# Altium schematic symbol library Operational Amplifiers.SchLib: 236 symbols (part 2 of 2)
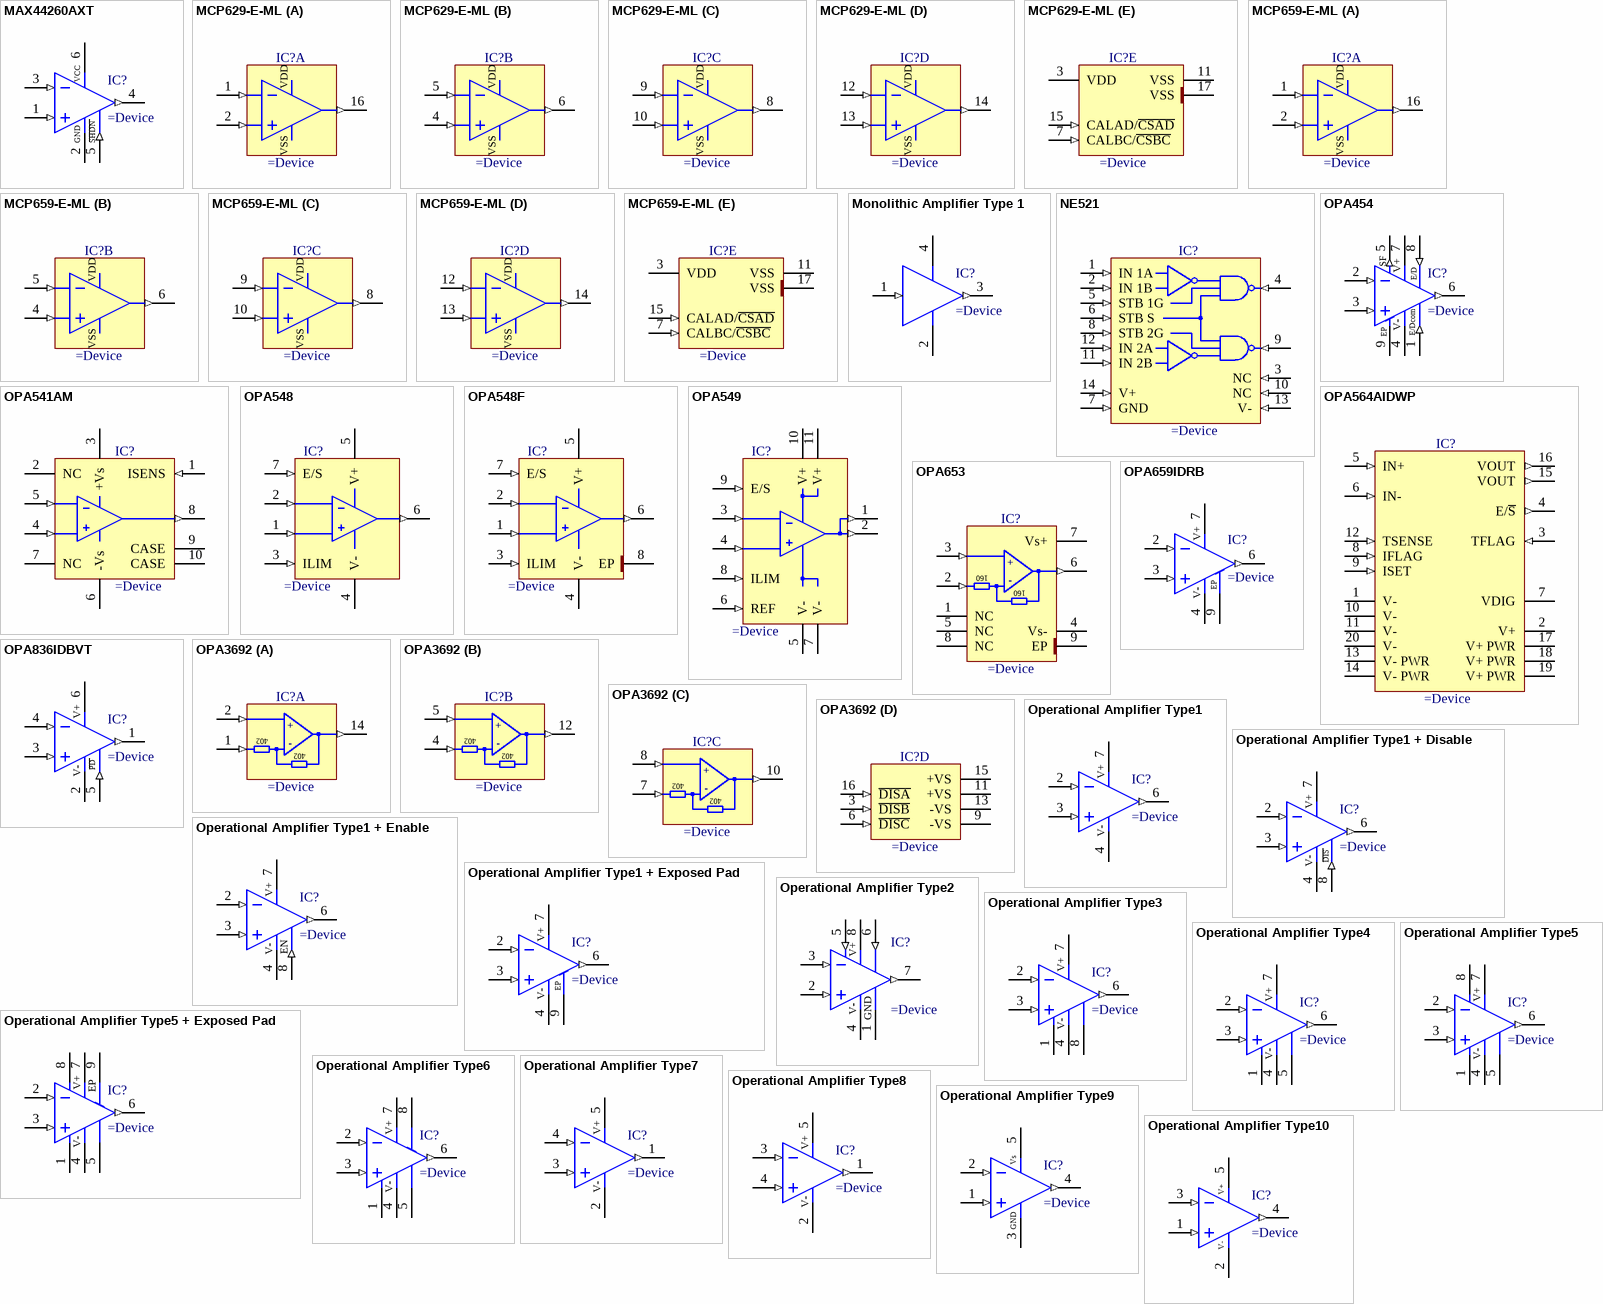
[diagram p9: symbols MAX44260AXT to Operational Amplifier Type10]

## Operational Amplifier Type4
designator IC?
Operational Amplifier with Offset 1-5
pins: 1 OFFSET, 2 IN- (in), 3 IN+ (in), 4 V- (power), 5 OFFSET, 6 OUT (out), 7 V+ (power)
1 alternate drawing of the same symbol

## Operational Amplifier Type5
designator IC?
Operational Amplifier
pins: 1 NC, 2 IN- (in), 3 IN+ (in), 4 V- (power), 5 NC, 6 OUT (out), 7 V+ (power), 8 NC
1 alternate drawing of the same symbol

## Operational Amplifier Type5 + Exposed Pad
designator IC?
Operational Amplifier with Exposed Thermal Pad
pins: 1 NC, 2 IN- (in), 3 IN+ (in), 4 V- (power), 5 NC, 6 OUT (out), 7 V+ (power), 8 NC, 9 EP
1 alternate drawing of the same symbol

## Operational Amplifier Type6
designator IC?
Operational Amplifier
pins: 1 OFFSET, 2 IN- (in), 3 IN+ (in), 4 V- (power), 5 OFFSET, 6 OUT (out), 7 V+ (power), 8 CASE
1 alternate drawing of the same symbol

## Operational Amplifier Type7
designator IC?
Operational Amplifier
pins: 1 OUT (out), 2 V- (power), 3 IN+ (in), 4 IN- (in), 5 V+ (power)
1 alternate drawing of the same symbol

## Operational Amplifier Type8
designator IC?
Operational Amplifier
pins: 1 OUT (out), 2 V- (power), 3 IN- (in), 4 IN+ (in), 5 V+ (power)
1 alternate drawing of the same symbol

## Operational Amplifier Type9
designator IC?
Operational Amplifier
pins: 1 IN+ (in), 2 IN- (in), 3 GND (power), 4 OUT (out), 5 Vs (power)
1 alternate drawing of the same symbol

## Operational Amplifier Type10
designator IC?
Operational Amplifier
pins: 1 IN+ (in), 2 V- (power), 3 IN- (in), 4 OUT (out), 5 V+ (power)
1 alternate drawing of the same symbol

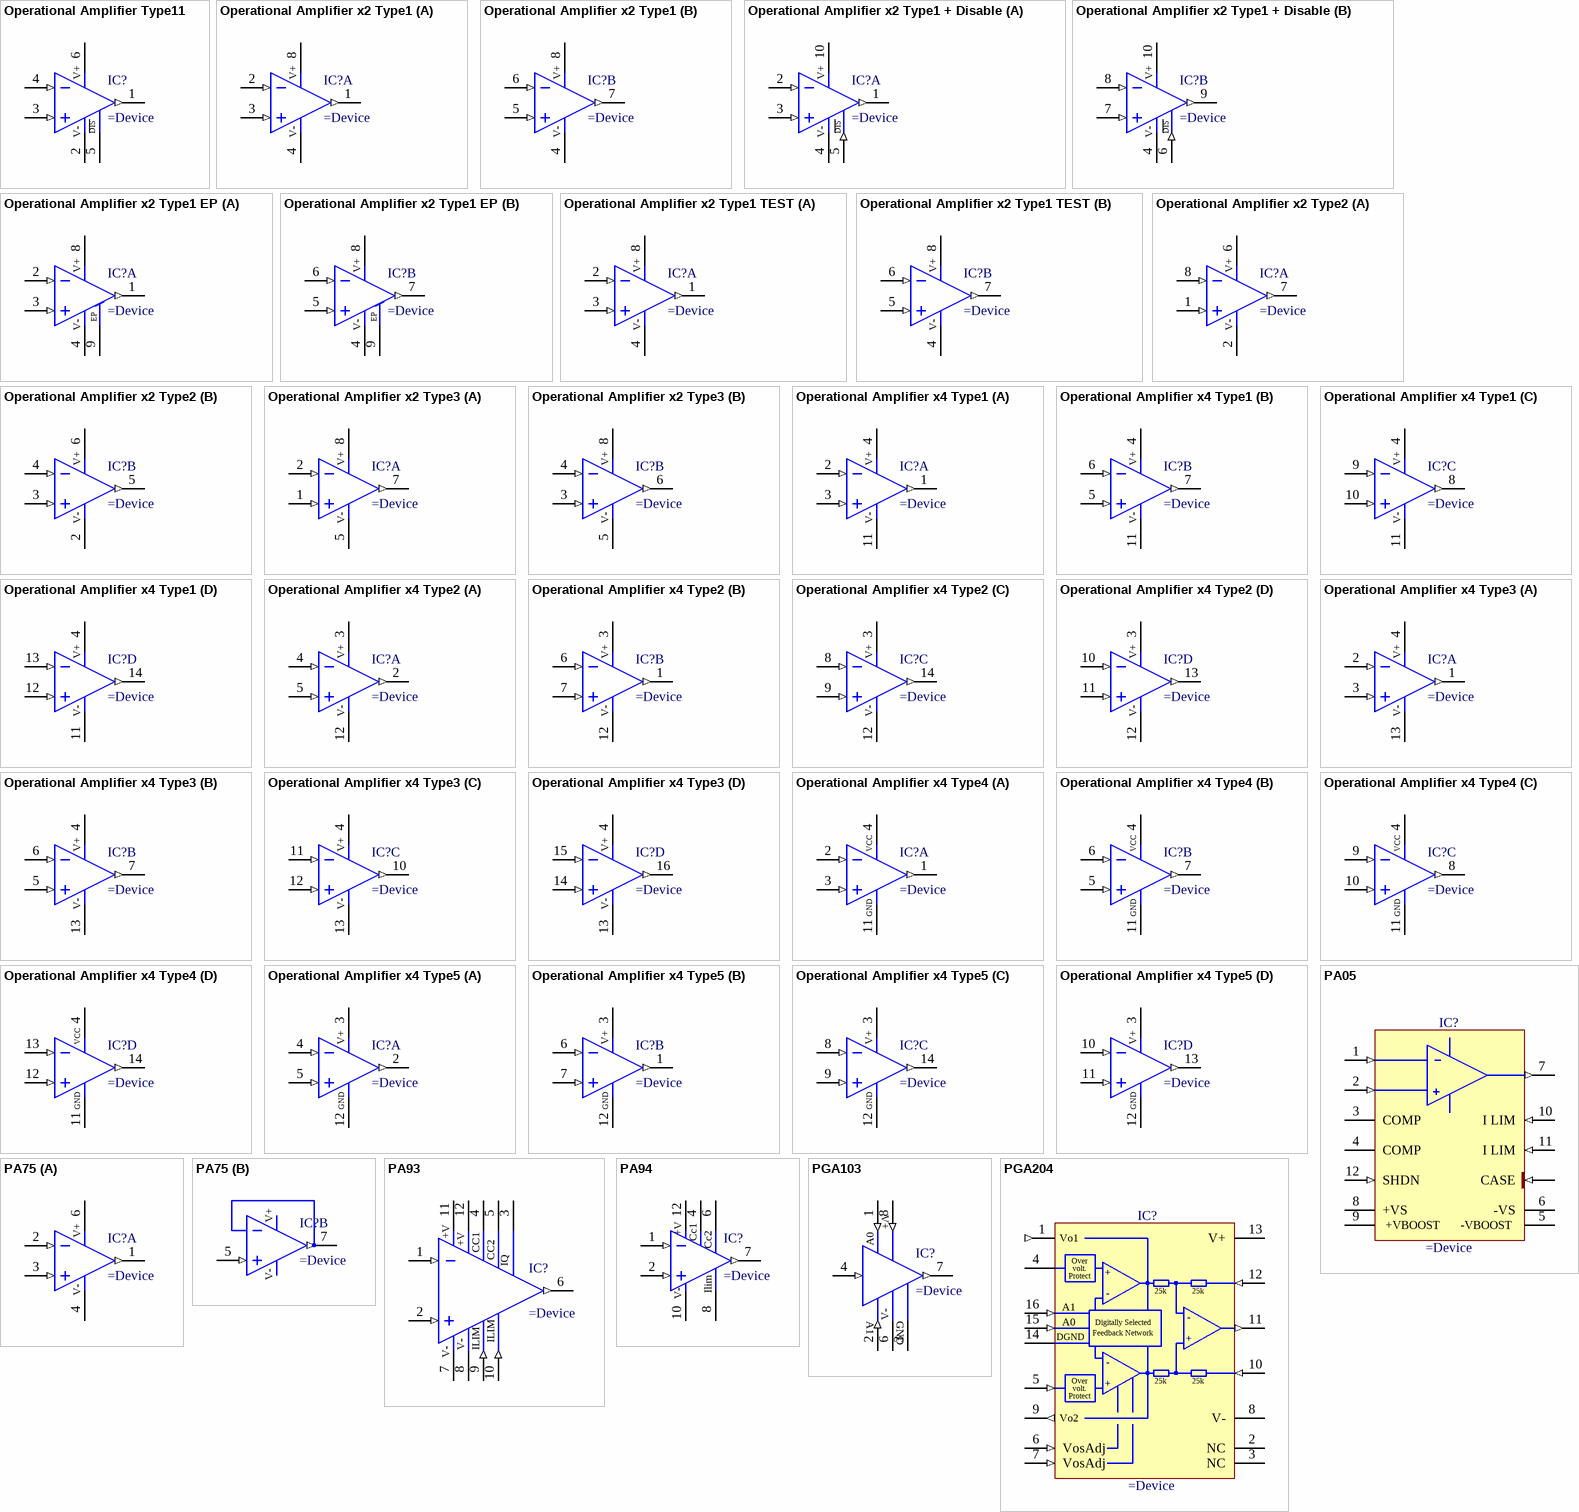
[diagram p7: symbols Operational Amplifier Type11 to PGA204]

## Operational Amplifier Type11
designator IC?
Operational Amplifier With Disable
pins: 1 OUT (out), 2 V- (power), 3 IN+ (in), 4 IN- (in), 5 ~{DIS} (power), 6 V+ (power)
1 alternate drawing of the same symbol
text: DIS

## Operational Amplifier x2 Type1
designator IC?
Dual Operational Amplifier
pins on every part: 4 V- (power), 8 V+ (power)
part A pins: 1 OUT (out), 2 IN- (in), 3 IN+ (in)
part B pins: 5 IN+ (in), 6 IN- (in), 7 OUT (out)
1 alternate drawing of the same symbol

## Operational Amplifier x2 Type1 + Disable
designator IC?
Dual Operational Amplifier with Disable
pins on every part: 4 V- (power), 10 V+ (power)
part A pins: 1 OUT (out), 2 IN- (in), 3 IN+ (in), 5 ~{DIS} (in)
part B pins: 6 ~{DIS} (in), 7 IN+ (in), 8 IN- (in), 9 OUT (out)
1 alternate drawing of the same symbol
part A text: DIS
part B text: DIS

## Operational Amplifier x2 Type1 EP
designator IC?
Dual Operational Amplifier With Exposed Pad
pins on every part: 4 V- (power), 8 V+ (power), 9 Exposed Pad (power)
part A pins: 1 OUT (out), 2 IN- (in), 3 IN+ (in)
part B pins: 5 IN+ (in), 6 IN- (in), 7 OUT (out)
1 alternate drawing of the same symbol
part A text: EP
part B text: EP

## Operational Amplifier x2 Type1 TEST
designator IC?
Dual Operational Amplifier
pins on every part: 4 V- (power), 8 V+ (power)
part A pins: 1 OUT (out), 2 IN- (in), 3 IN+ (in)
part B pins: 5 IN+ (in), 6 IN- (in), 7 OUT (out)
1 alternate drawing of the same symbol

## Operational Amplifier x2 Type2
designator IC?
Dual Operational Amplifier
pins on every part: 2 V- (power), 6 V+ (power)
part A pins: 1 IN+ (in), 7 OUT (out), 8 IN- (in)
part B pins: 3 IN+ (in), 4 IN- (in), 5 OUT (out)
1 alternate drawing of the same symbol

## Operational Amplifier x2 Type3
designator IC?
Dual Operational Amplifier
pins on every part: 5 V- (power), 8 V+ (power)
part A pins: 1 IN+ (in), 2 IN- (in), 7 OUT (out)
part B pins: 3 IN+ (in), 4 IN- (in), 6 OUT (out)
1 alternate drawing of the same symbol

## Operational Amplifier x4 Type1
designator IC?
Quad Operational Amplifier
pins on every part: 4 V+ (power), 11 V- (power)
part A pins: 1 OUT (out), 2 IN- (in), 3 IN+ (in)
part B pins: 5 IN+ (in), 6 IN- (in), 7 OUT (out)
part C pins: 8 OUT (out), 9 IN- (in), 10 IN+ (in)
part D pins: 12 IN+ (in), 13 IN- (in), 14 OUT (out)
1 alternate drawing of the same symbol

## Operational Amplifier x4 Type2
designator IC?
Quad Operational Amplifier
pins on every part: 3 V+ (power), 12 V- (power)
part A pins: 2 OUT (out), 4 IN- (in), 5 IN+ (in)
part B pins: 1 OUT (out), 6 IN- (in), 7 IN+ (in)
part C pins: 8 IN- (in), 9 IN+ (in), 14 OUT (out)
part D pins: 10 IN- (in), 11 IN+ (in), 13 OUT (out)
1 alternate drawing of the same symbol

## Operational Amplifier x4 Type3
designator IC?
Quad Operational Amplifier
pins on every part: 4 V+ (power), 13 V- (power)
part A pins: 1 OUT (out), 2 IN- (in), 3 IN+ (in)
part B pins: 5 IN+ (in), 6 IN- (in), 7 OUT (out)
part C pins: 10 OUT (out), 11 IN- (in), 12 IN+ (in)
part D pins: 14 IN+ (in), 15 IN- (in), 16 OUT (out)
1 alternate drawing of the same symbol

## Operational Amplifier x4 Type4
designator IC?
Quad Operational Amplifier
pins on every part: 4 V+ (power), 11 GND (power)
part A pins: 1 OUT (out), 2 IN- (in), 3 IN+ (in)
part B pins: 5 IN+ (in), 6 IN- (in), 7 OUT (out)
part C pins: 8 OUT (out), 9 IN- (in), 10 IN+ (in)
part D pins: 12 IN+ (in), 13 IN- (in), 14 OUT (out)
1 alternate drawing of the same symbol
part A text: VCC
part B text: VCC
part C text: VCC
part D text: VCC

## Operational Amplifier x4 Type5
designator IC?
Quad Operational Amplifier
pins on every part: 3 V+ (power), 12 GND (power)
part A pins: 2 OUT (out), 4 IN- (in), 5 IN+ (in)
part B pins: 1 OUT (out), 6 IN- (in), 7 IN+ (in)
part C pins: 8 IN- (in), 9 IN+ (in), 14 OUT (out)
part D pins: 10 IN- (in), 11 IN+ (in), 13 OUT (out)
1 alternate drawing of the same symbol

## PA05
designator IC?
30A, 100V, 100V/us Power Amplifier
pins: 1 -IN (in), 2 +IN (in), 3 COMP, 4 COMP, 5 -VBOOST (power), 6 -VS (power), 7 OUT (out), 8 +VS (power), 9 +VBOOST (power), 10 I LIM (in), 11 I LIM (in), 12 SHDN (in), CASE (in)

## PA75
designator IC?
Dual Power Operational Amplifier
part A pins: 1 OUTA (out), 2 IN- (in), 3 IN+ (in), 4 V- (power), 6 V+ (power)
part B pins: 5 IN+ (in), 7 OUT (out)
1 alternate drawing of the same symbol

## PA93
designator IC?
High Voltage Power Operational Amplifier
pins: 1 IN- (in), 2 IN+ (in), 3 IQ, 4 Cc1, 5 Cc2, 6 OUT (out), 7 -Vs (power), 8 -Vs (power), 9 ILIM (in), 10 ILIM (in), 11 +Vs (power), 12 +Vs (power)
1 alternate drawing of the same symbol
text: +V; CC1; CC2; V-

## PA94
designator IC?
High Voltage Power Operational Amplifier
pins: 1 IN- (in), 2 IN+ (in), 4 Cc1, 6 Cc2, 7 OUT (out), 8 ILIM, 10 -Vs (power), 12 +Vs (power)
1 alternate drawing of the same symbol
text: +V; Ilim; V-

## PGA103
designator IC?
Buffer Amplifier
pins: 1 A0 (in), 2 A1 (in), 3 GND (power), 4 IN (in), 6 V- (power), 7 OUT (out), 8 V+ (in)

## PGA204
designator IC?
Programmable Gain, Instrumentation Amplifier
pins: 1 Vo1 (out), 2 NC, 3 NC, 4 VIN-, 5 VIN+ (in), 6 VosAdj (in), 7 VosAdj (in), 8 V- (power), 9 Vo2 (out), 10 REF (in), 11 Vo (out), 12 FB (in), 13 V+ (power), 14 DGND (power), 15 A0 (in), 16 A1 (in)
text: Over; volt.; Protect; +; -; 25k; Digitally Selected; Feedback Network

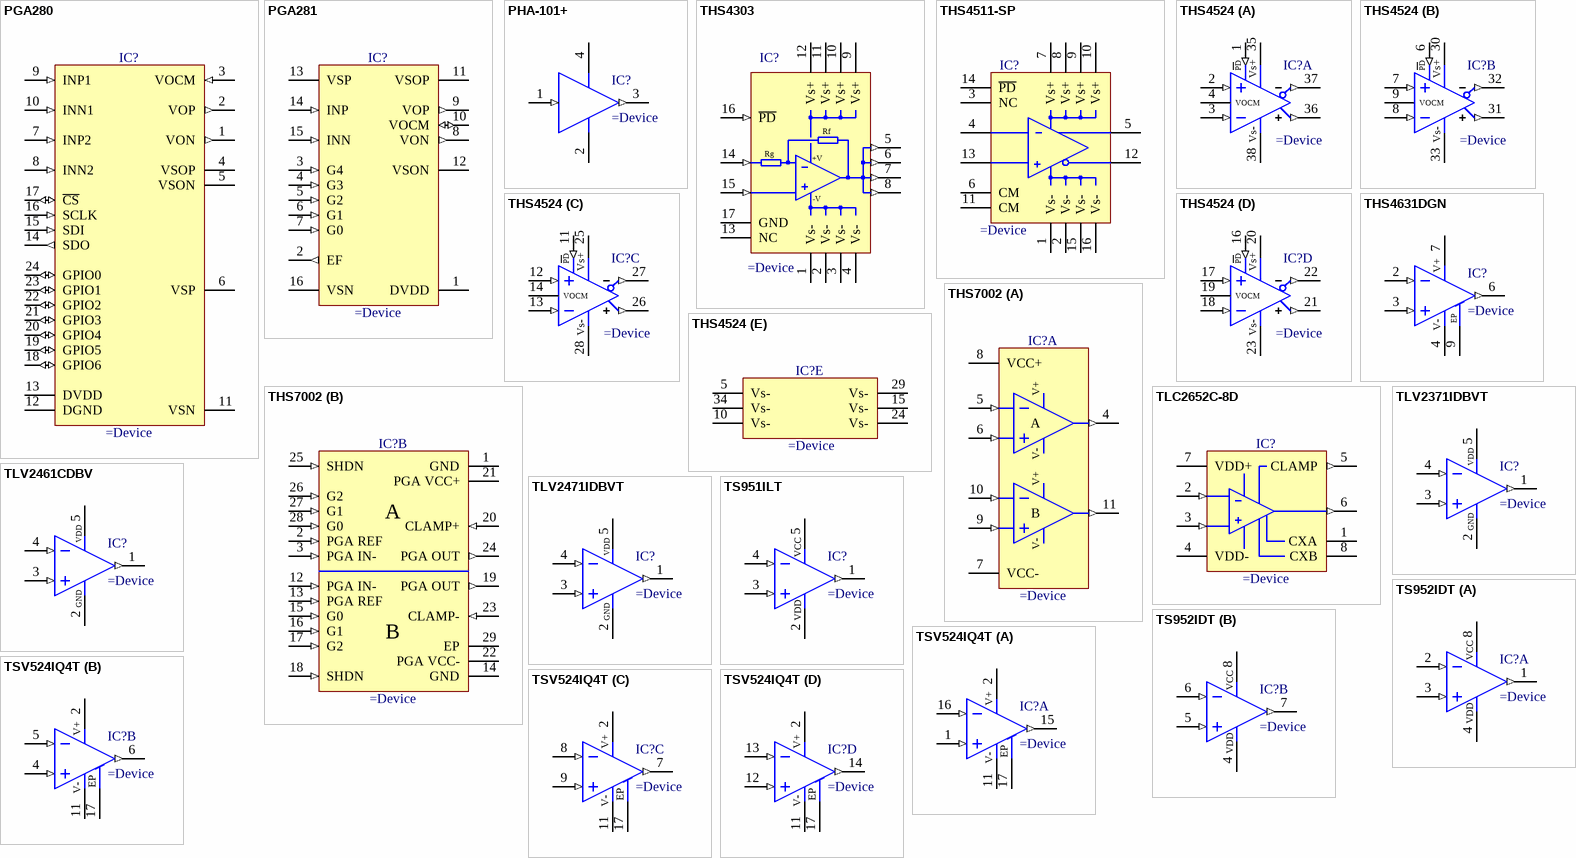
[diagram p8: symbols PGA280 to TSV524IQ4T]

## PGA280
designator IC?
Zerø-Drift, High-Voltage, Programmable Gain Instrumentation Amplifier
pins: 1 VON (out), 2 VOP (out), 3 VOCM (in), 4 VSOP (power), 5 VSON (power), 6 VSP (power), 7 INP2 (in), 8 INN2 (in), 9 INP1 (in), 10 INN1 (in), 11 VSN (power), 12 DGND (power), 13 DVDD (power), 14 SDO (out), 15 SDI (in), 16 SCLK (in), 17 ~{CS} (io), 18 GPIO6 (io), 19 GPIO5 (io), 20 GPIO4 (io), 21 GPIO3 (io), 22 GPIO2 (io), 23 GPIO1 (io), 24 GPIO0 (io)

## PGA281
designator IC?
Precision, Zero-Drift, High-Voltage, Programmable Gain Instrumentation Amplifier
pins: 1 DVDD (power), 2 EF (out), 3 G4 (in), 4 G3 (in), 5 G2 (in), 6 G1 (in), 7 G0 (in), 8 VON (out), 9 VOP (out), 10 VOCM (io), 11 VSOP (power), 12 VSON (power), 13 VSP (power), 14 INP (in), 15 INN (in), 16 VSN (power)

## PHA-101+
designator IC?
0.05-1.5GHz Surface Mount Monolithic Amplifier
pins: 1 RF IN (in), 2 GND (power), 3 RF OUT (out), 4 GND (power)

## THS4303
designator IC?
Wideband Fixed-Gain Amplifier
pins: 1 Vs- (power), 2 Vs- (power), 3 Vs- (power), 4 Vs- (power), 5 VOUT (out), 6 VOUT (out), 7 VOUT (out), 8 VOUT (out), 9 Vs+ (power), 10 Vs+ (power), 11 Vs+ (power), 12 Vs+ (power), 13 NC, 14 VIN- (in), 15 VIN+ (in), 16 ~{PD} (in), 17 GND
text: Rf; Rg; +V; -V

## THS4511-SP
designator IC?
Rad-Tolerant Class V, Wideband, Fully Differential Amplifier
pins: 1 Vs- (power), 2 Vs- (power), 3 NC (power), 4 Vin- (power), 5 Vout+ (power), 6 CM (power), 7 Vs+ (power), 8 Vs+ (power), 9 Vs+ (power), 10 Vs+ (power), 11 CM (power), 12 Vout- (power), 13 Vin+ (power), 14 ~{PD} (power), 15 Vs- (power), 16 Vs- (power)

## THS4524
designator IC?
Very Low Power Quad Channel Rail-to-Rail Output Fully Differential Amplifier
part A pins: 1 ~{PD} (in), 2 IN+ (in), 3 IN- (in), 4 VOCM, 35 Vs+ (power), 36 VOUT+ (out), 37 VOUT- (out), 38 Vs- (power)
part B pins: 6 ~{PD} (in), 7 IN+ (in), 8 IN- (in), 9 VOCM, 30 Vs+ (power), 31 VOUT+ (out), 32 VOUT- (out), 33 Vs- (power)
part C pins: 11 ~{PD} (in), 12 IN+ (in), 13 IN- (in), 14 VOCM, 25 Vs+ (power), 26 VOUT+ (out), 27 VOUT- (out), 28 Vs- (power)
part D pins: 16 ~{PD} (in), 17 IN+ (in), 18 IN- (in), 19 VOCM, 20 Vs+ (power), 21 VOUT+ (out), 22 VOUT- (out), 23 Vs- (power)
part E pins: 5 Vs- (power), 10 Vs- (power), 15 Vs- (power), 24 Vs- (power), 29 Vs- (power), 34 Vs- (power)
part A text: PD
part B text: PD
part C text: PD
part D text: PD

## THS4631DGN
designator IC?
High-Voltage, High Slew Rate, Wideband FET-Input Operational Amplifier
pins: 2 IN- (in), 3 IN+ (in), 4 V- (power), 6 OUT (out), 7 V+ (power), 9 EP (power)
1 alternate drawing of the same symbol

## THS7002
designator IC?
Dual 70MHz Programmable-Gain Amplifiers
part A pins: 4 PREAMP OUT (out), 5 PREAMP IN- (in), 6 PREAMP IN+ (in), 7 VCC- (power), 8 VCC+ (power), 9 PREAMP IN+ (in), 10 PREAMP IN- (in), 11 PREAMP OUT (out)
part B pins: 1 GND (power), 2 PGA REF (in), 3 PGA IN- (in), 12 PGA IN- (in), 13 PGA REF (in), 14 GND (power), 15 G0 (in), 16 G1 (in), 17 G2 (in), 18 SHDN (in), 19 PGA OUT (out), 20 CLAMP+ (in), 21 PGA VCC+ (power), 22 PGA VCC- (power), 23 CLAMP- (in), 24 PGA OUT (out), 25 SHDN (in), 26 G2 (in), 27 G1 (in), 28 G0 (in), 29 EP (power)
part A text: V+; A; V-; B
part B text: A; B

## TLC2652C-8D
designator IC?
Precision Chopper-Stabilized Operational Amplifier
pins: 1 CXA, 2 IN- (in), 3 IN+ (in), 4 VDD- (power), 5 CLAMP (out), 6 OUT (out), 7 VDD+ (power), 8 CXB
1 alternate drawing of the same symbol

## TLV2371IDBVT
designator IC?
500uA, 3MHz Rail-to-Rail Input/Output Operational Amplifier With Shutdown
pins: 1 OUT (out), 2 V- (power), 3 IN+ (in), 4 IN- (in), 5 V+ (power)
1 alternate drawing of the same symbol
text: VDD; GND

## TLV2461CDBV
designator IC?
Low-Power Rail-to-Rail Input/Output Operational Amplifier With Shutdown
pins: 1 OUT (out), 2 V- (power), 3 IN+ (in), 4 IN- (in), 5 V+ (power)
1 alternate drawing of the same symbol
text: VDD; GND

## TLV2471IDBVT
designator IC?
600uA 2.8MHz Rail-to-Rail Input/Output High-Drive Operational Amplifier With Shutdown
pins: 1 OUT (out), 2 V- (power), 3 IN+ (in), 4 IN- (in), 5 V+ (power)
1 alternate drawing of the same symbol
text: VDD; GND

## TS951ILT
designator IC?
Operational Amplifier
pins: 1 OUT (out), 2 V- (power), 3 IN+ (in), 4 IN- (in), 5 V+ (power)
1 alternate drawing of the same symbol
text: VCC; VDD

## TS952IDT
designator IC?
Input/Output Rail-to-Rail Low-Power Dual Operational Amplifiers
pins on every part: 4 V- (power), 8 V+ (power)
part A pins: 1 OUT (out), 2 IN- (in), 3 IN+ (in)
part B pins: 5 IN+ (in), 6 IN- (in), 7 OUT (out)
1 alternate drawing of the same symbol
part A text: VCC; VDD
part B text: VCC; VDD

## TSV524IQ4T
designator IC?
Quad High Merit Factor (1.15MHz for 45uA) CMOS Operational Amplifier
pins on every part: 2 V+ (power), 11 V- (power), 17 EP (power)
part A pins: 1 IN+ (in), 15 OUT (out), 16 IN- (in)
part B pins: 4 IN+ (in), 5 IN- (in), 6 OUT (out)
part C pins: 7 OUT (out), 8 IN- (in), 9 IN+ (in)
part D pins: 12 IN+ (in), 13 IN- (in), 14 OUT (out)
1 alternate drawing of the same symbol